# Altium schematic symbol library CC1100.SchLib: 1 symbol
Pins are listed as number, name and electrical type; pins without a type are passive.

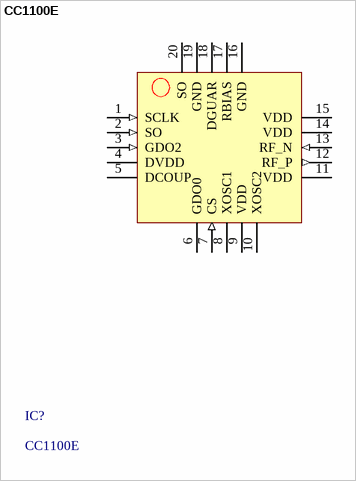
[diagram p0: symbol CC1100E]

## CC1100E
designator IC?
pins: 1 SCLK (in), 2 SO (in), 3 GDO2 (in), 4 DVDD (power), 5 DCOUP, 6 GDO0, 7 CS (in), 8 XOSC1, 9 VDD (power), 10 XOSC2, 11 VDD (power), 12 RF_P (out), 13 RF_N (in), 14 VDD (power), 15 VDD (power), 16 GND (power), 17 RBIAS, 18 DGUAR, 19 GND (power), 20 SO